# Altium schematic symbol library 1-2199298-2.SchLib: 1 symbol
Pins are listed as number, name and electrical type; pins without a type are passive.

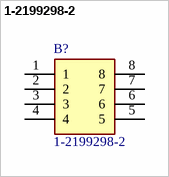
[diagram p0: symbol 1-2199298-2]

## 1-2199298-2
designator B?
TE CONNECTIVITY - 1-2199298-2 - IC SOCKET, DIP, 8POS, TH; Geometry.Height: 5.1mm; Mouser Part Number: 571-1-2199298-2; Mouser Price/Stock: https://www.mouser.co.uk/ProductDetail/TE-Connectivity/1-2199298-2?qs=fK8dlpkaUMtEKa4wabwOXQ%3D%3D; Manufacturer_Name: TE Connectivity; Manufacturer_Part_Number: 1-2199298-2; Datasheet Link: https://componentsearchengine.com/Datasheets/2/1-2199298-2.pdf
footprint DIPS762W70P254L1016H510Q8N
pins: 1, 2, 3, 4, 5, 6, 7, 8